# Altium schematic symbol library SnapEDAsch.SchLib: 1 symbol
Pins are listed as number, name and electrical type; pins without a type are passive.

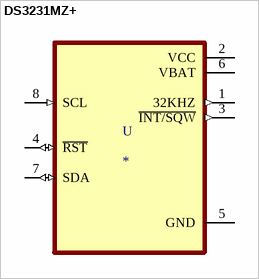
[diagram p0: symbol DS3231MZ+]

## DS3231MZ+
designator U
Real Time Clock _RTC_ IC Clock/Calendar IÂ²C, 2-Wire Serial 8-SOIC _0.154, 3.90mm Width_; MP: DS3231MZ; MF: Maxim Integrated; Price: None; Availability: Unavailable; Package: SOIC-8 Maxim Integrated; SnapEDA_Link: https://www.snapeda.com/parts/DS3231MZ/Maxim%20Integrated/view-part/2834343/?ref=snap; Value: *
footprint SOIC127P600X175-8N
pins: 1 32KHZ (out), 2 VCC (power), 3 ~{INT/SQW} (out), 4 ~{RST} (io), 5 GND (power), 6 VBAT (power), 7 SDA (io), 8 SCL (in)